# EAGLE library part ESP-12E (library MCUs)
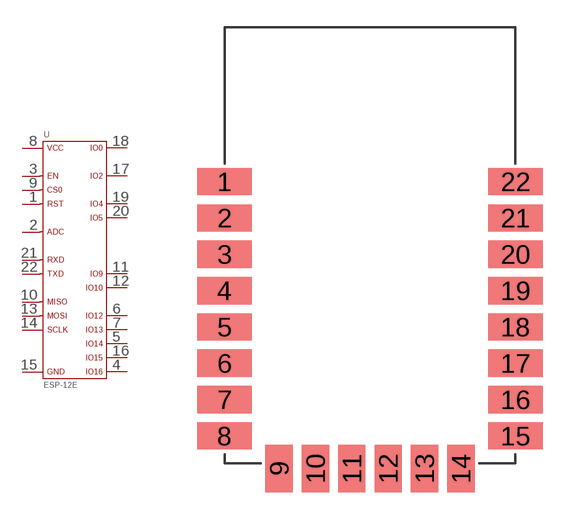
[diagram p4: symbol with the pads of ESP-12E; footprint ESP-12E]

Designator prefix U

## ESP-12E  [ESP-12E]
1  RST  pas
2  ADC  pas
3  EN  pas
4  IO16  pas
5  IO14  pas
6  IO12  pas
7  IO13  pas
8  VCC  pas
9  CS0  pas
10  MISO  pas
11  IO9  pas
12  IO10  pas
13  MOSI  pas
14  SCLK  pas
15  GND  pas
16  IO15  pas
17  IO2  pas
18  IO0  pas
19  IO4  pas
20  IO5  pas
21  RXD  pas
22  TXD  pas

## Footprint ESP-12E (pad centres in mm)
smd 3 x 1.5: 1 0,15.5; 2 0,13.5; 3 0,11.5; 4 0,9.5; 5 0,7.5; 6 0,5.5; 7 0,3.5; 8 0,1.5; 15 16,1.5; 16 16,3.5; 17 16,5.5; 18 16,7.5; 19 16,9.5; 20 16,11.5; 21 16,13.5; 22 16,15.5
smd 1.5 x 2.6: 9 3,-0.3; 10 5,-0.3; 11 7,-0.3; 12 9,-0.3; 13 11,-0.3; 14 13,-0.3